# EAGLE library part FLASH-M25P32 (library PikiTech)
SPI Flash memory, 32Mbit (4Mbyte)
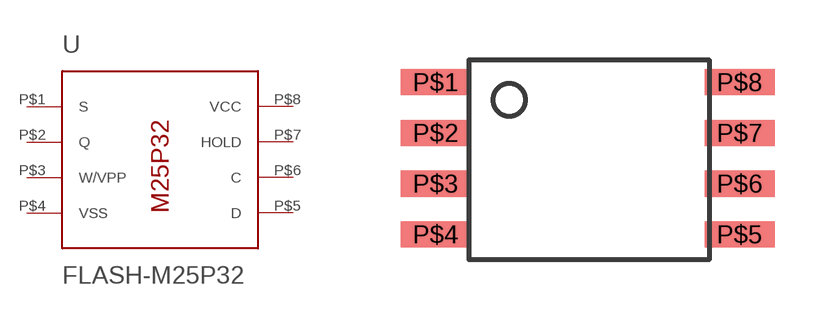
[diagram p0: symbol with the pads of SOIC8_W; footprint SOIC8_W]

Designator prefix -

## FLASH-M25P32  [SOIC8_W]
P$1  S
P$2  Q
P$3  W/VPP
P$4  VSS
P$5  D
P$6  C
P$7  HOLD
P$8  VCC

## Footprint SOIC8_W (pad centres in mm)
Wide SOIC-8 Package
smd 1.75 x 0.65: P$1 -2.54,2.54; P$2 -2.54,1.27; P$3 -2.54,0; P$4 -2.54,-1.27; P$5 5.06,-1.27; P$6 5.06,0; P$7 5.06,1.27; P$8 5.06,2.54